# Altium schematic symbol library jlcpcb_2025_04_capacitors_extended_1812.schlib: 342 symbols (part 3 of 7)
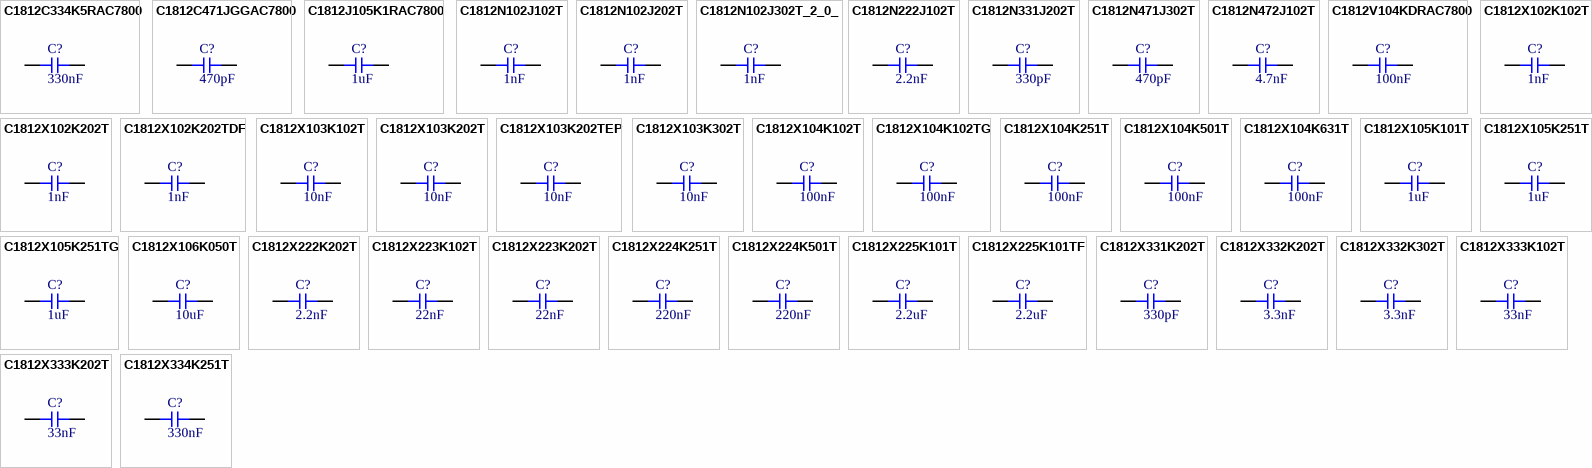
[diagram p10: symbols C1812C334K5RAC7800 to C1812X334K251T]

## C1812X104K102TG
designator C?  Capacitance: 100nF  (hidden comment: *)
Capacitor, Ceramic (MLCC), 100nF, ±10%, 1kV, X7R, ±10%, SMD 1812; Manufacturer: IHHEC(HOLY STONE ENTERPRISE CO., LTD); Manufacturer Part Number: C1812X104K102TG; Package Size: 1812; JLCPCB Basic Part: No; JLCPCB Part Number: C559299; Supplier 1: LCSC; Category: Capacitors - MLCC; Supplier Part Number 1: C559299; Tolerance: ±10%; Voltage Rating: 1kV; Temperature Coefficient: X7R; RoHS: Yes; ComponentLink1Description: Datasheet; ComponentLink1URL: https://wmsc.lcsc.com/wmsc/upload/file/pdf/v2/lcsc/2304140030_IHHEC-HOLY-STONE-ENTERPRISE-CO---LTD-C1812X104K102TG_C559299.pdf; ComponentLink2Description: JLCPCB Part URL; ComponentLink2URL: https://jlcpcb.com/partdetail/C559299; ComponentLink3Description: LCSC Part URL; ComponentLink3URL: https://lcsc.com/product-detail/Multilayer-Ceramic-Capacitors-MLCC---SMD-SMT_IHHECHOLY-STONE-ENTERPRISE-CO.%2C-LTD-IHHECHOLY-STONE-ENTERPRISE-CO.%2C-LTD-C1812X104K102TG_C559299.html
footprint CAP-1812 (1812 (4532M) Capacitor)
pins: 1, 2

## C1812X104K251T
designator C?  Capacitance: 100nF  (hidden comment: *)
Capacitor, Ceramic (MLCC), 100nF, ±10%, 250V, X7R, ±10%, SMD 1812; Manufacturer: IHHEC(HOLY STONE ENTERPRISE CO., LTD); Manufacturer Part Number: C1812X104K251T; Package Size: 1812; JLCPCB Basic Part: No; JLCPCB Part Number: C106148; Supplier 1: LCSC; Category: Capacitors - MLCC; Supplier Part Number 1: C106148; Tolerance: ±10%; Voltage Rating: 250V; Temperature Coefficient: X7R; RoHS: Yes; ComponentLink1Description: Datasheet; ComponentLink1URL: https://wmsc.lcsc.com/wmsc/upload/file/pdf/v2/lcsc/2304140030_IHHEC-HOLY-STONE-ENTERPRISE-CO---LTD-C1812X104K251T_C106148.pdf; ComponentLink2Description: JLCPCB Part URL; ComponentLink2URL: https://jlcpcb.com/partdetail/C106148; ComponentLink3Description: LCSC Part URL; ComponentLink3URL: https://lcsc.com/product-detail/Multilayer-Ceramic-Capacitors-MLCC---SMD-SMT_IHHECHOLY-STONE-ENTERPRISE-CO.%2C-LTD-IHHECHOLY-STONE-ENTERPRISE-CO.%2C-LTD-C1812X104K251T_C106148.html
footprint CAP-1812 (1812 (4532M) Capacitor)
pins: 1, 2

## C1812X104K501T
designator C?  Capacitance: 100nF  (hidden comment: *)
Capacitor, Ceramic (MLCC), 100nF, ±10%, 500V, X7R, ±10%, SMD 1812; Manufacturer: IHHEC(HOLY STONE ENTERPRISE CO., LTD); Manufacturer Part Number: C1812X104K501T; Package Size: 1812; JLCPCB Basic Part: No; JLCPCB Part Number: C106149; Supplier 1: LCSC; Category: Capacitors - MLCC; Supplier Part Number 1: C106149; Tolerance: ±10%; Voltage Rating: 500V; Temperature Coefficient: X7R; RoHS: Yes; ComponentLink1Description: Datasheet; ComponentLink1URL: https://wmsc.lcsc.com/wmsc/upload/file/pdf/v2/lcsc/2304140030_IHHEC-HOLY-STONE-ENTERPRISE-CO---LTD-C1812X104K501T_C106149.pdf; ComponentLink2Description: JLCPCB Part URL; ComponentLink2URL: https://jlcpcb.com/partdetail/C106149; ComponentLink3Description: LCSC Part URL; ComponentLink3URL: https://lcsc.com/product-detail/Multilayer-Ceramic-Capacitors-MLCC---SMD-SMT_IHHECHOLY-STONE-ENTERPRISE-CO.%2C-LTD-IHHECHOLY-STONE-ENTERPRISE-CO.%2C-LTD-C1812X104K501T_C106149.html
footprint CAP-1812 (1812 (4532M) Capacitor)
pins: 1, 2

## C1812X104K631T
designator C?  Capacitance: 100nF  (hidden comment: *)
Capacitor, Ceramic (MLCC), 100nF, ±10%, 630V, X7R, ±10%, SMD 1812; Manufacturer: IHHEC(HOLY STONE ENTERPRISE CO., LTD); Manufacturer Part Number: C1812X104K631T; Package Size: 1812; JLCPCB Basic Part: No; JLCPCB Part Number: C106150; Supplier 1: LCSC; Category: Capacitors - MLCC; Supplier Part Number 1: C106150; Tolerance: ±10%; Voltage Rating: 630V; Temperature Coefficient: X7R; RoHS: Yes; ComponentLink1Description: Datasheet; ComponentLink1URL: https://wmsc.lcsc.com/wmsc/upload/file/pdf/v2/lcsc/2304140030_IHHEC-HOLY-STONE-ENTERPRISE-CO---LTD-C1812X104K631T_C106150.pdf; ComponentLink2Description: JLCPCB Part URL; ComponentLink2URL: https://jlcpcb.com/partdetail/C106150; ComponentLink3Description: LCSC Part URL; ComponentLink3URL: https://lcsc.com/product-detail/Multilayer-Ceramic-Capacitors-MLCC---SMD-SMT_IHHECHOLY-STONE-ENTERPRISE-CO.%2C-LTD-IHHECHOLY-STONE-ENTERPRISE-CO.%2C-LTD-C1812X104K631T_C106150.html
footprint CAP-1812 (1812 (4532M) Capacitor)
pins: 1, 2

## C1812X105K101T
designator C?  Capacitance: 1uF  (hidden comment: *)
Capacitor, Ceramic (MLCC), 1uF, ±10%, 100V, X7R, ±10%, SMD 1812; Manufacturer: IHHEC(HOLY STONE ENTERPRISE CO., LTD); Manufacturer Part Number: C1812X105K101T; Package Size: 1812; JLCPCB Basic Part: No; JLCPCB Part Number: C106151; Supplier 1: LCSC; Category: Capacitors - MLCC; Supplier Part Number 1: C106151; Tolerance: ±10%; Voltage Rating: 100V; Temperature Coefficient: X7R; RoHS: Yes; ComponentLink1Description: Datasheet; ComponentLink1URL: https://wmsc.lcsc.com/wmsc/upload/file/pdf/v2/lcsc/2304140030_IHHEC-HOLY-STONE-ENTERPRISE-CO---LTD-C1812X105K101T_C106151.pdf; ComponentLink2Description: JLCPCB Part URL; ComponentLink2URL: https://jlcpcb.com/partdetail/C106151; ComponentLink3Description: LCSC Part URL; ComponentLink3URL: https://lcsc.com/product-detail/Multilayer-Ceramic-Capacitors-MLCC---SMD-SMT_IHHECHOLY-STONE-ENTERPRISE-CO.%2C-LTD-IHHECHOLY-STONE-ENTERPRISE-CO.%2C-LTD-C1812X105K101T_C106151.html
footprint CAP-1812 (1812 (4532M) Capacitor)
pins: 1, 2

## C1812X105K251T
designator C?  Capacitance: 1uF  (hidden comment: *)
Capacitor, Ceramic (MLCC), 1uF, ±10%, 250V, X7R, ±10%, SMD 1812; Manufacturer: IHHEC(HOLY STONE ENTERPRISE CO., LTD); Manufacturer Part Number: C1812X105K251T; Package Size: 1812; JLCPCB Basic Part: No; JLCPCB Part Number: C106152; Supplier 1: LCSC; Category: Capacitors - MLCC; Supplier Part Number 1: C106152; Tolerance: ±10%; Voltage Rating: 250V; Temperature Coefficient: X7R; RoHS: Yes; ComponentLink1Description: Datasheet; ComponentLink1URL: https://wmsc.lcsc.com/wmsc/upload/file/pdf/v2/lcsc/2304140030_IHHEC-HOLY-STONE-ENTERPRISE-CO---LTD-C1812X105K251T_C106152.pdf; ComponentLink2Description: JLCPCB Part URL; ComponentLink2URL: https://jlcpcb.com/partdetail/C106152; ComponentLink3Description: LCSC Part URL; ComponentLink3URL: https://lcsc.com/product-detail/Multilayer-Ceramic-Capacitors-MLCC---SMD-SMT_IHHECHOLY-STONE-ENTERPRISE-CO.%2C-LTD-IHHECHOLY-STONE-ENTERPRISE-CO.%2C-LTD-C1812X105K251T_C106152.html
footprint CAP-1812 (1812 (4532M) Capacitor)
pins: 1, 2

## C1812X105K251TG
designator C?  Capacitance: 1uF  (hidden comment: *)
Capacitor, Ceramic (MLCC), 1uF, ±10%, 250V, ±10%, SMD 1812; Manufacturer: IHHEC(HOLY STONE ENTERPRISE CO., LTD); Manufacturer Part Number: C1812X105K251TG; Package Size: 1812; JLCPCB Basic Part: No; JLCPCB Part Number: C4355183; Supplier 1: LCSC; Category: Capacitors - MLCC; Supplier Part Number 1: C4355183; Tolerance: ±10%; Voltage Rating: 250V; RoHS: Yes; ComponentLink1Description: Datasheet; ComponentLink1URL: https://wmsc.lcsc.com/wmsc/upload/file/pdf/v2/lcsc/2207151800_IHHEC-HOLY-STONE-ENTERPRISE-CO---LTD-C1812X105K251TG_C4355183.pdf; ComponentLink2Description: JLCPCB Part URL; ComponentLink2URL: https://jlcpcb.com/partdetail/C4355183; ComponentLink3Description: LCSC Part URL; ComponentLink3URL: https://lcsc.com/product-detail/Multilayer-Ceramic-Capacitors-MLCC---SMD-SMT_IHHECHOLY-STONE-ENTERPRISE-CO.%2C-LTD-IHHECHOLY-STONE-ENTERPRISE-CO.%2C-LTD-C1812X105K251TG_C4355183.html
footprint CAP-1812 (1812 (4532M) Capacitor)
pins: 1, 2

## C1812X106K050T
designator C?  Capacitance: 10uF  (hidden comment: *)
Capacitor, Ceramic (MLCC), 10uF, ±10%, 50V, X7R, ±10%, SMD 1812; Manufacturer: IHHEC(HOLY STONE ENTERPRISE CO., LTD); Manufacturer Part Number: C1812X106K050T; Package Size: 1812; JLCPCB Basic Part: No; JLCPCB Part Number: C111896; Supplier 1: LCSC; Category: Capacitors - MLCC; Supplier Part Number 1: C111896; Tolerance: ±10%; Voltage Rating: 50V; Temperature Coefficient: X7R; RoHS: Yes; ComponentLink1Description: Datasheet; ComponentLink1URL: https://wmsc.lcsc.com/wmsc/upload/file/pdf/v2/lcsc/1811111206_IHHEC-HOLY-STONE-ENTERPRISE-CO---LTD-C1812X106K050T_C111896.pdf; ComponentLink2Description: JLCPCB Part URL; ComponentLink2URL: https://jlcpcb.com/partdetail/C111896; ComponentLink3Description: LCSC Part URL; ComponentLink3URL: https://lcsc.com/product-detail/Multilayer-Ceramic-Capacitors-MLCC---SMD-SMT_IHHECHOLY-STONE-ENTERPRISE-CO.%2C-LTD-IHHECHOLY-STONE-ENTERPRISE-CO.%2C-LTD-C1812X106K050T_C111896.html
footprint CAP-1812 (1812 (4532M) Capacitor)
pins: 1, 2

## C1812X222K202T
designator C?  Capacitance: 2.2nF  (hidden comment: *)
Capacitor, Ceramic (MLCC), 2.2nF, ±10%, 2kV, X7R, ±10%, SMD 1812; Manufacturer: IHHEC(HOLY STONE ENTERPRISE CO., LTD); Manufacturer Part Number: C1812X222K202T; Package Size: 1812; JLCPCB Basic Part: No; JLCPCB Part Number: C106157; Supplier 1: LCSC; Category: Capacitors - MLCC; Supplier Part Number 1: C106157; Tolerance: ±10%; Voltage Rating: 2kV; Temperature Coefficient: X7R; RoHS: Yes; ComponentLink1Description: Datasheet; ComponentLink1URL: https://wmsc.lcsc.com/wmsc/upload/file/pdf/v2/lcsc/2304140030_IHHEC-HOLY-STONE-ENTERPRISE-CO---LTD-C1812X222K202T_C106157.pdf; ComponentLink2Description: JLCPCB Part URL; ComponentLink2URL: https://jlcpcb.com/partdetail/C106157; ComponentLink3Description: LCSC Part URL; ComponentLink3URL: https://lcsc.com/product-detail/Multilayer-Ceramic-Capacitors-MLCC---SMD-SMT_IHHECHOLY-STONE-ENTERPRISE-CO.%2C-LTD-IHHECHOLY-STONE-ENTERPRISE-CO.%2C-LTD-C1812X222K202T_C106157.html
footprint CAP-1812 (1812 (4532M) Capacitor)
pins: 1, 2

## C1812X223K102T
designator C?  Capacitance: 22nF  (hidden comment: *)
Capacitor, Ceramic (MLCC), 22nF, ±10%, 1kV, X7R, ±10%, SMD 1812; Manufacturer: IHHEC(HOLY STONE ENTERPRISE CO., LTD); Manufacturer Part Number: C1812X223K102T; Package Size: 1812; JLCPCB Basic Part: No; JLCPCB Part Number: C915848; Supplier 1: LCSC; Category: Capacitors - MLCC; Supplier Part Number 1: C915848; Tolerance: ±10%; Voltage Rating: 1kV; Temperature Coefficient: X7R; RoHS: Yes; ComponentLink1Description: Datasheet; ComponentLink1URL: https://wmsc.lcsc.com/wmsc/upload/file/pdf/v2/lcsc/2304140030_IHHEC-HOLY-STONE-ENTERPRISE-CO---LTD-C1812X223K102T_C915848.pdf; ComponentLink2Description: JLCPCB Part URL; ComponentLink2URL: https://jlcpcb.com/partdetail/C915848; ComponentLink3Description: LCSC Part URL; ComponentLink3URL: https://lcsc.com/product-detail/Multilayer-Ceramic-Capacitors-MLCC---SMD-SMT_IHHECHOLY-STONE-ENTERPRISE-CO.%2C-LTD-IHHECHOLY-STONE-ENTERPRISE-CO.%2C-LTD-C1812X223K102T_C915848.html
footprint CAP-1812 (1812 (4532M) Capacitor)
pins: 1, 2

## C1812X223K202T
designator C?  Capacitance: 22nF  (hidden comment: *)
Capacitor, Ceramic (MLCC), 22nF, ±10%, 2kV, X7R, ±10%, SMD 1812; Manufacturer: IHHEC(HOLY STONE ENTERPRISE CO., LTD); Manufacturer Part Number: C1812X223K202T; Package Size: 1812; JLCPCB Basic Part: No; JLCPCB Part Number: C2915761; Supplier 1: LCSC; Category: Capacitors - MLCC; Supplier Part Number 1: C2915761; Tolerance: ±10%; Voltage Rating: 2kV; Temperature Coefficient: X7R; RoHS: Yes; ComponentLink1Description: Datasheet; ComponentLink1URL: https://wmsc.lcsc.com/wmsc/upload/file/pdf/v2/lcsc/2111172030_IHHEC-HOLY-STONE-ENTERPRISE-CO---LTD-C1812X223K202T_C2915761.pdf; ComponentLink2Description: JLCPCB Part URL; ComponentLink2URL: https://jlcpcb.com/partdetail/C2915761; ComponentLink3Description: LCSC Part URL; ComponentLink3URL: https://lcsc.com/product-detail/Multilayer-Ceramic-Capacitors-MLCC---SMD-SMT_IHHECHOLY-STONE-ENTERPRISE-CO.%2C-LTD-IHHECHOLY-STONE-ENTERPRISE-CO.%2C-LTD-C1812X223K202T_C2915761.html
footprint CAP-1812 (1812 (4532M) Capacitor)
pins: 1, 2

## C1812X224K251T
designator C?  Capacitance: 220nF  (hidden comment: *)
Capacitor, Ceramic (MLCC), 220nF, ±10%, 250V, X7R, ±10%, SMD 1812; Manufacturer: IHHEC(HOLY STONE ENTERPRISE CO., LTD); Manufacturer Part Number: C1812X224K251T; Package Size: 1812; JLCPCB Basic Part: No; JLCPCB Part Number: C106159; Supplier 1: LCSC; Category: Capacitors - MLCC; Supplier Part Number 1: C106159; Tolerance: ±10%; Voltage Rating: 250V; Temperature Coefficient: X7R; RoHS: Yes; ComponentLink1Description: Datasheet; ComponentLink1URL: https://wmsc.lcsc.com/wmsc/upload/file/pdf/v2/lcsc/2304140030_IHHEC-HOLY-STONE-ENTERPRISE-CO---LTD-C1812X224K251T_C106159.pdf; ComponentLink2Description: JLCPCB Part URL; ComponentLink2URL: https://jlcpcb.com/partdetail/C106159; ComponentLink3Description: LCSC Part URL; ComponentLink3URL: https://lcsc.com/product-detail/Multilayer-Ceramic-Capacitors-MLCC---SMD-SMT_IHHECHOLY-STONE-ENTERPRISE-CO.%2C-LTD-IHHECHOLY-STONE-ENTERPRISE-CO.%2C-LTD-C1812X224K251T_C106159.html
footprint CAP-1812 (1812 (4532M) Capacitor)
pins: 1, 2

## C1812X224K501T
designator C?  Capacitance: 220nF  (hidden comment: *)
Capacitor, Ceramic (MLCC), 220nF, ±10%, 500V, X7R, ±10%, SMD 1812; Manufacturer: IHHEC(HOLY STONE ENTERPRISE CO., LTD); Manufacturer Part Number: C1812X224K501T; Package Size: 1812; JLCPCB Basic Part: No; JLCPCB Part Number: C106160; Supplier 1: LCSC; Category: Capacitors - MLCC; Supplier Part Number 1: C106160; Tolerance: ±10%; Voltage Rating: 500V; Temperature Coefficient: X7R; RoHS: Yes; ComponentLink1Description: Datasheet; ComponentLink1URL: https://wmsc.lcsc.com/wmsc/upload/file/pdf/v2/lcsc/2304140030_IHHEC-HOLY-STONE-ENTERPRISE-CO---LTD-C1812X224K501T_C106160.pdf; ComponentLink2Description: JLCPCB Part URL; ComponentLink2URL: https://jlcpcb.com/partdetail/C106160; ComponentLink3Description: LCSC Part URL; ComponentLink3URL: https://lcsc.com/product-detail/Multilayer-Ceramic-Capacitors-MLCC---SMD-SMT_IHHECHOLY-STONE-ENTERPRISE-CO.%2C-LTD-IHHECHOLY-STONE-ENTERPRISE-CO.%2C-LTD-C1812X224K501T_C106160.html
footprint CAP-1812 (1812 (4532M) Capacitor)
pins: 1, 2

## C1812X225K101T
designator C?  Capacitance: 2.2uF  (hidden comment: *)
Capacitor, Ceramic (MLCC), 2.2uF, ±10%, 100V, X7R, ±10%, SMD 1812; Manufacturer: IHHEC(HOLY STONE ENTERPRISE CO., LTD); Manufacturer Part Number: C1812X225K101T; Package Size: 1812; JLCPCB Basic Part: No; JLCPCB Part Number: C106162; Supplier 1: LCSC; Category: Capacitors - MLCC; Supplier Part Number 1: C106162; Tolerance: ±10%; Voltage Rating: 100V; Temperature Coefficient: X7R; RoHS: Yes; ComponentLink1Description: Datasheet; ComponentLink1URL: https://wmsc.lcsc.com/wmsc/upload/file/pdf/v2/lcsc/2304140030_IHHEC-HOLY-STONE-ENTERPRISE-CO---LTD-C1812X225K101T_C106162.pdf; ComponentLink2Description: JLCPCB Part URL; ComponentLink2URL: https://jlcpcb.com/partdetail/C106162; ComponentLink3Description: LCSC Part URL; ComponentLink3URL: https://lcsc.com/product-detail/Multilayer-Ceramic-Capacitors-MLCC---SMD-SMT_IHHECHOLY-STONE-ENTERPRISE-CO.%2C-LTD-IHHECHOLY-STONE-ENTERPRISE-CO.%2C-LTD-C1812X225K101T_C106162.html
footprint CAP-1812 (1812 (4532M) Capacitor)
pins: 1, 2

## C1812X225K101TF
designator C?  Capacitance: 2.2uF  (hidden comment: *)
Capacitor, Ceramic (MLCC), 2.2uF, ±10%, 100V, X7R, ±10%, SMD 1812; Manufacturer: IHHEC(HOLY STONE ENTERPRISE CO., LTD); Manufacturer Part Number: C1812X225K101TF; Package Size: 1812; JLCPCB Basic Part: No; JLCPCB Part Number: C915850; Supplier 1: LCSC; Category: Capacitors - MLCC; Supplier Part Number 1: C915850; Tolerance: ±10%; Voltage Rating: 100V; Temperature Coefficient: X7R; RoHS: Yes; ComponentLink1Description: Datasheet; ComponentLink2Description: JLCPCB Part URL; ComponentLink2URL: https://jlcpcb.com/partdetail/C915850; ComponentLink3Description: LCSC Part URL; ComponentLink3URL: https://lcsc.com/product-detail/Multilayer-Ceramic-Capacitors-MLCC---SMD-SMT_IHHECHOLY-STONE-ENTERPRISE-CO.%2C-LTD-IHHECHOLY-STONE-ENTERPRISE-CO.%2C-LTD-C1812X225K101TF_C915850.html
footprint CAP-1812 (1812 (4532M) Capacitor)
pins: 1, 2

## C1812X331K202T
designator C?  Capacitance: 330pF  (hidden comment: *)
Capacitor, Ceramic (MLCC), 330pF, ±10%, 2kV, X7R, ±10%, SMD 1812; Manufacturer: IHHEC(HOLY STONE ENTERPRISE CO., LTD); Manufacturer Part Number: C1812X331K202T; Package Size: 1812; JLCPCB Basic Part: No; JLCPCB Part Number: C2940744; Supplier 1: LCSC; Category: Capacitors - MLCC; Supplier Part Number 1: C2940744; Tolerance: ±10%; Voltage Rating: 2kV; Temperature Coefficient: X7R; RoHS: Yes; ComponentLink1Description: Datasheet; ComponentLink1URL: https://wmsc.lcsc.com/wmsc/upload/file/pdf/v2/lcsc/2205061616_IHHEC-HOLY-STONE-ENTERPRISE-CO---LTD-C1812X331K202T_C2940744.pdf; ComponentLink2Description: JLCPCB Part URL; ComponentLink2URL: https://jlcpcb.com/partdetail/C2940744; ComponentLink3Description: LCSC Part URL; ComponentLink3URL: https://lcsc.com/product-detail/Multilayer-Ceramic-Capacitors-MLCC---SMD-SMT_IHHECHOLY-STONE-ENTERPRISE-CO.%2C-LTD-IHHECHOLY-STONE-ENTERPRISE-CO.%2C-LTD-C1812X331K202T_C2940744.html
footprint CAP-1812 (1812 (4532M) Capacitor)
pins: 1, 2

## C1812X332K202T
designator C?  Capacitance: 3.3nF  (hidden comment: *)
Capacitor, Ceramic (MLCC), 3.3nF, ±10%, 2kV, X7R, ±10%, SMD 1812; Manufacturer: IHHEC(HOLY STONE ENTERPRISE CO., LTD); Manufacturer Part Number: C1812X332K202T; Package Size: 1812; JLCPCB Basic Part: No; JLCPCB Part Number: C106164; Supplier 1: LCSC; Category: Capacitors - MLCC; Supplier Part Number 1: C106164; Tolerance: ±10%; Voltage Rating: 2kV; Temperature Coefficient: X7R; RoHS: Yes; ComponentLink1Description: Datasheet; ComponentLink1URL: https://wmsc.lcsc.com/wmsc/upload/file/pdf/v2/lcsc/2304140030_IHHEC-HOLY-STONE-ENTERPRISE-CO---LTD-C1812X332K202T_C106164.pdf; ComponentLink2Description: JLCPCB Part URL; ComponentLink2URL: https://jlcpcb.com/partdetail/C106164; ComponentLink3Description: LCSC Part URL; ComponentLink3URL: https://lcsc.com/product-detail/Multilayer-Ceramic-Capacitors-MLCC---SMD-SMT_IHHECHOLY-STONE-ENTERPRISE-CO.%2C-LTD-IHHECHOLY-STONE-ENTERPRISE-CO.%2C-LTD-C1812X332K202T_C106164.html
footprint CAP-1812 (1812 (4532M) Capacitor)
pins: 1, 2

## C1812X332K302T
designator C?  Capacitance: 3.3nF  (hidden comment: *)
Capacitor, Ceramic (MLCC), 3.3nF, ±10%, 3kV, X7R, ±10%, SMD 1812; Manufacturer: IHHEC(HOLY STONE ENTERPRISE CO., LTD); Manufacturer Part Number: C1812X332K302T; Package Size: 1812; JLCPCB Basic Part: No; JLCPCB Part Number: C106165; Supplier 1: LCSC; Category: Capacitors - MLCC; Supplier Part Number 1: C106165; Tolerance: ±10%; Voltage Rating: 3kV; Temperature Coefficient: X7R; RoHS: Yes; ComponentLink1Description: Datasheet; ComponentLink1URL: https://wmsc.lcsc.com/wmsc/upload/file/pdf/v2/lcsc/2304140030_IHHEC-HOLY-STONE-ENTERPRISE-CO---LTD-C1812X332K302T_C106165.pdf; ComponentLink2Description: JLCPCB Part URL; ComponentLink2URL: https://jlcpcb.com/partdetail/C106165; ComponentLink3Description: LCSC Part URL; ComponentLink3URL: https://lcsc.com/product-detail/Multilayer-Ceramic-Capacitors-MLCC---SMD-SMT_IHHECHOLY-STONE-ENTERPRISE-CO.%2C-LTD-IHHECHOLY-STONE-ENTERPRISE-CO.%2C-LTD-C1812X332K302T_C106165.html
footprint CAP-1812 (1812 (4532M) Capacitor)
pins: 1, 2

## C1812X333K102T
designator C?  Capacitance: 33nF  (hidden comment: *)
Capacitor, Ceramic (MLCC), 33nF, ±10%, 1kV, X7R, ±10%, SMD 1812; Manufacturer: IHHEC(HOLY STONE ENTERPRISE CO., LTD); Manufacturer Part Number: C1812X333K102T; Package Size: 1812; JLCPCB Basic Part: No; JLCPCB Part Number: C340308; Supplier 1: LCSC; Category: Capacitors - MLCC; Supplier Part Number 1: C340308; Tolerance: ±10%; Voltage Rating: 1kV; Temperature Coefficient: X7R; RoHS: Yes; ComponentLink1Description: Datasheet; ComponentLink1URL: https://wmsc.lcsc.com/wmsc/upload/file/pdf/v2/lcsc/2304140030_IHHEC-HOLY-STONE-ENTERPRISE-CO---LTD-C1812X333K102T_C340308.pdf; ComponentLink2Description: JLCPCB Part URL; ComponentLink2URL: https://jlcpcb.com/partdetail/C340308; ComponentLink3Description: LCSC Part URL; ComponentLink3URL: https://lcsc.com/product-detail/Multilayer-Ceramic-Capacitors-MLCC---SMD-SMT_IHHECHOLY-STONE-ENTERPRISE-CO.%2C-LTD-IHHECHOLY-STONE-ENTERPRISE-CO.%2C-LTD-C1812X333K102T_C340308.html
footprint CAP-1812 (1812 (4532M) Capacitor)
pins: 1, 2

## C1812X333K202T
designator C?  Capacitance: 33nF  (hidden comment: *)
Capacitor, Ceramic (MLCC), 33nF, ±10%, 2kV, X7R, ±10%, SMD 1812; Manufacturer: IHHEC(HOLY STONE ENTERPRISE CO., LTD); Manufacturer Part Number: C1812X333K202T; Package Size: 1812; JLCPCB Basic Part: No; JLCPCB Part Number: C2940751; Supplier 1: LCSC; Category: Capacitors - MLCC; Supplier Part Number 1: C2940751; Tolerance: ±10%; Voltage Rating: 2kV; Temperature Coefficient: X7R; RoHS: Yes; ComponentLink1Description: Datasheet; ComponentLink1URL: https://wmsc.lcsc.com/wmsc/upload/file/pdf/v2/lcsc/2203101903_IHHEC-HOLY-STONE-ENTERPRISE-CO---LTD-C1812X333K202T_C2940751.pdf; ComponentLink2Description: JLCPCB Part URL; ComponentLink2URL: https://jlcpcb.com/partdetail/C2940751; ComponentLink3Description: LCSC Part URL; ComponentLink3URL: https://lcsc.com/product-detail/Multilayer-Ceramic-Capacitors-MLCC---SMD-SMT_IHHECHOLY-STONE-ENTERPRISE-CO.%2C-LTD-IHHECHOLY-STONE-ENTERPRISE-CO.%2C-LTD-C1812X333K202T_C2940751.html
footprint CAP-1812 (1812 (4532M) Capacitor)
pins: 1, 2

## C1812X334K251T
designator C?  Capacitance: 330nF  (hidden comment: *)
Capacitor, Ceramic (MLCC), 330nF, ±10%, 250V, X7R, ±10%, SMD 1812; Manufacturer: IHHEC(HOLY STONE ENTERPRISE CO., LTD); Manufacturer Part Number: C1812X334K251T; Package Size: 1812; JLCPCB Basic Part: No; JLCPCB Part Number: C106167; Supplier 1: LCSC; Category: Capacitors - MLCC; Supplier Part Number 1: C106167; Tolerance: ±10%; Voltage Rating: 250V; Temperature Coefficient: X7R; RoHS: Yes; ComponentLink1Description: Datasheet; ComponentLink1URL: https://wmsc.lcsc.com/wmsc/upload/file/pdf/v2/lcsc/2304140030_IHHEC-HOLY-STONE-ENTERPRISE-CO---LTD-C1812X334K251T_C106167.pdf; ComponentLink2Description: JLCPCB Part URL; ComponentLink2URL: https://jlcpcb.com/partdetail/C106167; ComponentLink3Description: LCSC Part URL; ComponentLink3URL: https://lcsc.com/product-detail/Multilayer-Ceramic-Capacitors-MLCC---SMD-SMT_IHHECHOLY-STONE-ENTERPRISE-CO.%2C-LTD-IHHECHOLY-STONE-ENTERPRISE-CO.%2C-LTD-C1812X334K251T_C106167.html
footprint CAP-1812 (1812 (4532M) Capacitor)
pins: 1, 2

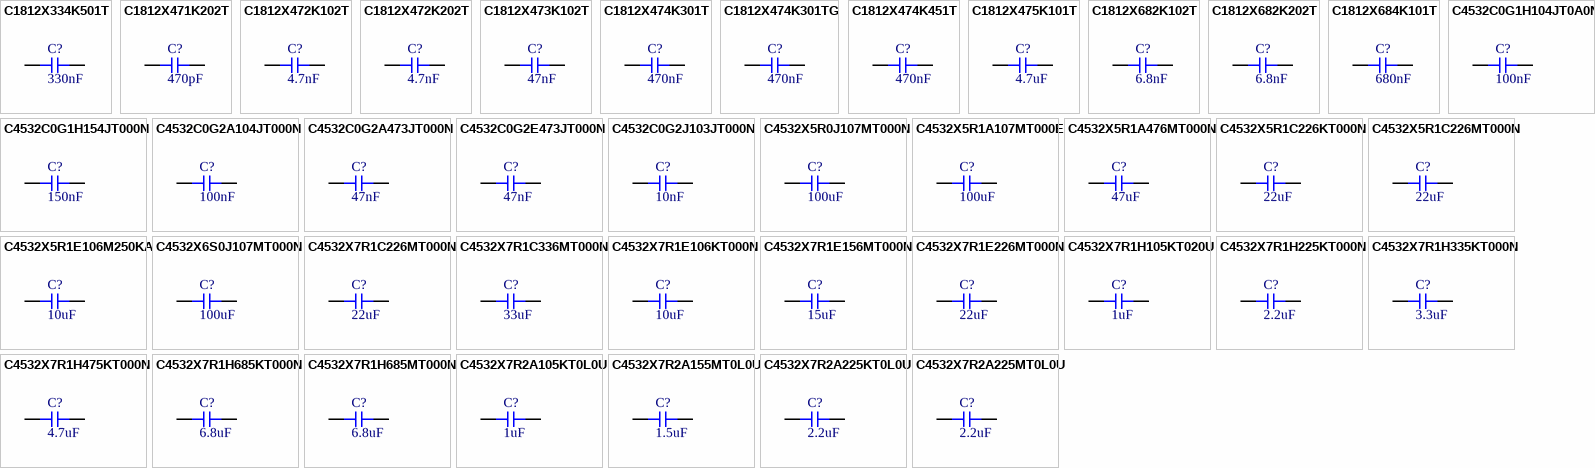
[diagram p3: symbols C1812X334K501T to C4532X7R2A225MT0L0U]

## C1812X334K501T
designator C?  Capacitance: 330nF  (hidden comment: *)
Capacitor, Ceramic (MLCC), 330nF, ±10%, 500V, X7R, ±10%, SMD 1812; Manufacturer: IHHEC(HOLY STONE ENTERPRISE CO., LTD); Manufacturer Part Number: C1812X334K501T; Package Size: 1812; JLCPCB Basic Part: No; JLCPCB Part Number: C2998569; Supplier 1: LCSC; Category: Capacitors - MLCC; Supplier Part Number 1: C2998569; Tolerance: ±10%; Voltage Rating: 500V; Temperature Coefficient: X7R; RoHS: Yes; ComponentLink1Description: Datasheet; ComponentLink1URL: https://wmsc.lcsc.com/wmsc/upload/file/pdf/v2/lcsc/2205051716_IHHEC-HOLY-STONE-ENTERPRISE-CO---LTD-C1812X334K501T_C2998569.pdf; ComponentLink2Description: JLCPCB Part URL; ComponentLink2URL: https://jlcpcb.com/partdetail/C2998569; ComponentLink3Description: LCSC Part URL; ComponentLink3URL: https://lcsc.com/product-detail/Multilayer-Ceramic-Capacitors-MLCC---SMD-SMT_IHHECHOLY-STONE-ENTERPRISE-CO.%2C-LTD-IHHECHOLY-STONE-ENTERPRISE-CO.%2C-LTD-C1812X334K501T_C2998569.html
footprint CAP-1812 (1812 (4532M) Capacitor)
pins: 1, 2

## C1812X471K202T
designator C?  Capacitance: 470pF  (hidden comment: *)
Capacitor, Ceramic (MLCC), 470pF, ±10%, 2kV, X7R, ±10%, SMD 1812; Manufacturer: IHHEC(HOLY STONE ENTERPRISE CO., LTD); Manufacturer Part Number: C1812X471K202T; Package Size: 1812; JLCPCB Basic Part: No; JLCPCB Part Number: C106170; Supplier 1: LCSC; Category: Capacitors - MLCC; Supplier Part Number 1: C106170; Tolerance: ±10%; Voltage Rating: 2kV; Temperature Coefficient: X7R; RoHS: Yes; ComponentLink1Description: Datasheet; ComponentLink1URL: https://wmsc.lcsc.com/wmsc/upload/file/pdf/v2/lcsc/2304140030_IHHEC-HOLY-STONE-ENTERPRISE-CO---LTD-C1812X471K202T_C106170.pdf; ComponentLink2Description: JLCPCB Part URL; ComponentLink2URL: https://jlcpcb.com/partdetail/C106170; ComponentLink3Description: LCSC Part URL; ComponentLink3URL: https://lcsc.com/product-detail/Multilayer-Ceramic-Capacitors-MLCC---SMD-SMT_IHHECHOLY-STONE-ENTERPRISE-CO.%2C-LTD-IHHECHOLY-STONE-ENTERPRISE-CO.%2C-LTD-C1812X471K202T_C106170.html
footprint CAP-1812 (1812 (4532M) Capacitor)
pins: 1, 2

## C1812X472K102T
designator C?  Capacitance: 4.7nF  (hidden comment: *)
Capacitor, Ceramic (MLCC), 4.7nF, ±10%, 1kV, X7R, ±10%, SMD 1812; Manufacturer: IHHEC(HOLY STONE ENTERPRISE CO., LTD); Manufacturer Part Number: C1812X472K102T; Package Size: 1812; JLCPCB Basic Part: No; JLCPCB Part Number: C106171; Supplier 1: LCSC; Category: Capacitors - MLCC; Supplier Part Number 1: C106171; Tolerance: ±10%; Voltage Rating: 1kV; Temperature Coefficient: X7R; RoHS: Yes; ComponentLink1Description: Datasheet; ComponentLink1URL: https://wmsc.lcsc.com/wmsc/upload/file/pdf/v2/lcsc/2304140030_IHHEC-HOLY-STONE-ENTERPRISE-CO---LTD-C1812X472K102T_C106171.pdf; ComponentLink2Description: JLCPCB Part URL; ComponentLink2URL: https://jlcpcb.com/partdetail/C106171; ComponentLink3Description: LCSC Part URL; ComponentLink3URL: https://lcsc.com/product-detail/Multilayer-Ceramic-Capacitors-MLCC---SMD-SMT_IHHECHOLY-STONE-ENTERPRISE-CO.%2C-LTD-IHHECHOLY-STONE-ENTERPRISE-CO.%2C-LTD-C1812X472K102T_C106171.html
footprint CAP-1812 (1812 (4532M) Capacitor)
pins: 1, 2

## C1812X472K202T
designator C?  Capacitance: 4.7nF  (hidden comment: *)
Capacitor, Ceramic (MLCC), 4.7nF, ±10%, 2kV, X7R, ±10%, SMD 1812; Manufacturer: IHHEC(HOLY STONE ENTERPRISE CO., LTD); Manufacturer Part Number: C1812X472K202T; Package Size: 1812; JLCPCB Basic Part: No; JLCPCB Part Number: C106172; Supplier 1: LCSC; Category: Capacitors - MLCC; Supplier Part Number 1: C106172; Tolerance: ±10%; Voltage Rating: 2kV; Temperature Coefficient: X7R; RoHS: Yes; ComponentLink1Description: Datasheet; ComponentLink1URL: https://wmsc.lcsc.com/wmsc/upload/file/pdf/v2/lcsc/2304140030_IHHEC-HOLY-STONE-ENTERPRISE-CO---LTD-C1812X472K202T_C106172.pdf; ComponentLink2Description: JLCPCB Part URL; ComponentLink2URL: https://jlcpcb.com/partdetail/C106172; ComponentLink3Description: LCSC Part URL; ComponentLink3URL: https://lcsc.com/product-detail/Multilayer-Ceramic-Capacitors-MLCC---SMD-SMT_IHHECHOLY-STONE-ENTERPRISE-CO.%2C-LTD-IHHECHOLY-STONE-ENTERPRISE-CO.%2C-LTD-C1812X472K202T_C106172.html
footprint CAP-1812 (1812 (4532M) Capacitor)
pins: 1, 2

## C1812X473K102T
designator C?  Capacitance: 47nF  (hidden comment: *)
Capacitor, Ceramic (MLCC), 47nF, ±10%, 1kV, X7R, ±10%, SMD 1812; Manufacturer: IHHEC(HOLY STONE ENTERPRISE CO., LTD); Manufacturer Part Number: C1812X473K102T; Package Size: 1812; JLCPCB Basic Part: No; JLCPCB Part Number: C106173; Supplier 1: LCSC; Category: Capacitors - MLCC; Supplier Part Number 1: C106173; Tolerance: ±10%; Voltage Rating: 1kV; Temperature Coefficient: X7R; RoHS: Yes; ComponentLink1Description: Datasheet; ComponentLink1URL: https://wmsc.lcsc.com/wmsc/upload/file/pdf/v2/lcsc/2304140030_IHHEC-HOLY-STONE-ENTERPRISE-CO---LTD-C1812X473K102T_C106173.pdf; ComponentLink2Description: JLCPCB Part URL; ComponentLink2URL: https://jlcpcb.com/partdetail/C106173; ComponentLink3Description: LCSC Part URL; ComponentLink3URL: https://lcsc.com/product-detail/Multilayer-Ceramic-Capacitors-MLCC---SMD-SMT_IHHECHOLY-STONE-ENTERPRISE-CO.%2C-LTD-IHHECHOLY-STONE-ENTERPRISE-CO.%2C-LTD-C1812X473K102T_C106173.html
footprint CAP-1812 (1812 (4532M) Capacitor)
pins: 1, 2

## C1812X474K301T
designator C?  Capacitance: 470nF  (hidden comment: *)
Capacitor, Ceramic (MLCC), 470nF, ±10%, 300V, X7R, ±10%, SMD 1812; Manufacturer: IHHEC(HOLY STONE ENTERPRISE CO., LTD); Manufacturer Part Number: C1812X474K301T; Package Size: 1812; JLCPCB Basic Part: No; JLCPCB Part Number: C961538; Supplier 1: LCSC; Category: Capacitors - MLCC; Supplier Part Number 1: C961538; Tolerance: ±10%; Voltage Rating: 300V; Temperature Coefficient: X7R; RoHS: Yes; ComponentLink1Description: Datasheet; ComponentLink1URL: https://wmsc.lcsc.com/wmsc/upload/file/pdf/v2/lcsc/2304140030_IHHEC-HOLY-STONE-ENTERPRISE-CO---LTD-C1812X474K301T_C961538.pdf; ComponentLink2Description: JLCPCB Part URL; ComponentLink2URL: https://jlcpcb.com/partdetail/C961538; ComponentLink3Description: LCSC Part URL; ComponentLink3URL: https://lcsc.com/product-detail/Multilayer-Ceramic-Capacitors-MLCC---SMD-SMT_IHHECHOLY-STONE-ENTERPRISE-CO.%2C-LTD-IHHECHOLY-STONE-ENTERPRISE-CO.%2C-LTD-C1812X474K301T_C961538.html
footprint CAP-1812 (1812 (4532M) Capacitor)
pins: 1, 2

## C1812X474K301TG
designator C?  Capacitance: 470nF  (hidden comment: *)
Capacitor, Ceramic (MLCC), 470nF, ±10%, 300V, X7R, ±10%, SMD 1812; Manufacturer: IHHEC(HOLY STONE ENTERPRISE CO., LTD); Manufacturer Part Number: C1812X474K301TG; Package Size: 1812; JLCPCB Basic Part: No; JLCPCB Part Number: C961539; Supplier 1: LCSC; Category: Capacitors - MLCC; Supplier Part Number 1: C961539; Tolerance: ±10%; Voltage Rating: 300V; Temperature Coefficient: X7R; RoHS: Yes; ComponentLink1Description: Datasheet; ComponentLink1URL: https://wmsc.lcsc.com/wmsc/upload/file/pdf/v2/lcsc/2304140030_IHHEC-HOLY-STONE-ENTERPRISE-CO---LTD-C1812X474K301TG_C961539.pdf; ComponentLink2Description: JLCPCB Part URL; ComponentLink2URL: https://jlcpcb.com/partdetail/C961539; ComponentLink3Description: LCSC Part URL; ComponentLink3URL: https://lcsc.com/product-detail/Multilayer-Ceramic-Capacitors-MLCC---SMD-SMT_IHHECHOLY-STONE-ENTERPRISE-CO.%2C-LTD-IHHECHOLY-STONE-ENTERPRISE-CO.%2C-LTD-C1812X474K301TG_C961539.html
footprint CAP-1812 (1812 (4532M) Capacitor)
pins: 1, 2

## C1812X474K451T
designator C?  Capacitance: 470nF  (hidden comment: *)
Capacitor, Ceramic (MLCC), 470nF, ±10%, 450V, X7R, ±10%, SMD 1812; Manufacturer: IHHEC(HOLY STONE ENTERPRISE CO., LTD); Manufacturer Part Number: C1812X474K451T; Package Size: 1812; JLCPCB Basic Part: No; JLCPCB Part Number: C106175; Supplier 1: LCSC; Category: Capacitors - MLCC; Supplier Part Number 1: C106175; Tolerance: ±10%; Voltage Rating: 450V; Temperature Coefficient: X7R; RoHS: Yes; ComponentLink1Description: Datasheet; ComponentLink1URL: https://wmsc.lcsc.com/wmsc/upload/file/pdf/v2/lcsc/2304140030_IHHEC-HOLY-STONE-ENTERPRISE-CO---LTD-C1812X474K451T_C106175.pdf; ComponentLink2Description: JLCPCB Part URL; ComponentLink2URL: https://jlcpcb.com/partdetail/C106175; ComponentLink3Description: LCSC Part URL; ComponentLink3URL: https://lcsc.com/product-detail/Multilayer-Ceramic-Capacitors-MLCC---SMD-SMT_IHHECHOLY-STONE-ENTERPRISE-CO.%2C-LTD-IHHECHOLY-STONE-ENTERPRISE-CO.%2C-LTD-C1812X474K451T_C106175.html
footprint CAP-1812 (1812 (4532M) Capacitor)
pins: 1, 2

## C1812X475K101T
designator C?  Capacitance: 4.7uF  (hidden comment: *)
Capacitor, Ceramic (MLCC), 4.7uF, ±10%, 100V, X7R, ±10%, SMD 1812; Manufacturer: IHHEC(HOLY STONE ENTERPRISE CO., LTD); Manufacturer Part Number: C1812X475K101T; Package Size: 1812; JLCPCB Basic Part: No; JLCPCB Part Number: C915849; Supplier 1: LCSC; Category: Capacitors - MLCC; Supplier Part Number 1: C915849; Tolerance: ±10%; Voltage Rating: 100V; Temperature Coefficient: X7R; RoHS: Yes; ComponentLink1Description: Datasheet; ComponentLink1URL: https://wmsc.lcsc.com/wmsc/upload/file/pdf/v2/lcsc/2304140030_IHHEC-HOLY-STONE-ENTERPRISE-CO---LTD-C1812X475K101T_C915849.pdf; ComponentLink2Description: JLCPCB Part URL; ComponentLink2URL: https://jlcpcb.com/partdetail/C915849; ComponentLink3Description: LCSC Part URL; ComponentLink3URL: https://lcsc.com/product-detail/Multilayer-Ceramic-Capacitors-MLCC---SMD-SMT_IHHECHOLY-STONE-ENTERPRISE-CO.%2C-LTD-IHHECHOLY-STONE-ENTERPRISE-CO.%2C-LTD-C1812X475K101T_C915849.html
footprint CAP-1812 (1812 (4532M) Capacitor)
pins: 1, 2

## C1812X682K102T
designator C?  Capacitance: 6.8nF  (hidden comment: *)
Capacitor, Ceramic (MLCC), 6.8nF, ±10%, 1kV, X7R, ±10%, SMD 1812; Manufacturer: IHHEC(HOLY STONE ENTERPRISE CO., LTD); Manufacturer Part Number: C1812X682K102T; Package Size: 1812; JLCPCB Basic Part: No; JLCPCB Part Number: C106178; Supplier 1: LCSC; Category: Capacitors - MLCC; Supplier Part Number 1: C106178; Tolerance: ±10%; Voltage Rating: 1kV; Temperature Coefficient: X7R; RoHS: Yes; ComponentLink1Description: Datasheet; ComponentLink1URL: https://wmsc.lcsc.com/wmsc/upload/file/pdf/v2/lcsc/2304140030_IHHEC-HOLY-STONE-ENTERPRISE-CO---LTD-C1812X682K102T_C106178.pdf; ComponentLink2Description: JLCPCB Part URL; ComponentLink2URL: https://jlcpcb.com/partdetail/C106178; ComponentLink3Description: LCSC Part URL; ComponentLink3URL: https://lcsc.com/product-detail/Multilayer-Ceramic-Capacitors-MLCC---SMD-SMT_IHHECHOLY-STONE-ENTERPRISE-CO.%2C-LTD-IHHECHOLY-STONE-ENTERPRISE-CO.%2C-LTD-C1812X682K102T_C106178.html
footprint CAP-1812 (1812 (4532M) Capacitor)
pins: 1, 2

## C1812X682K202T
designator C?  Capacitance: 6.8nF  (hidden comment: *)
Capacitor, Ceramic (MLCC), 6.8nF, ±10%, 2kV, X7R, ±10%, SMD 1812; Manufacturer: IHHEC(HOLY STONE ENTERPRISE CO., LTD); Manufacturer Part Number: C1812X682K202T; Package Size: 1812; JLCPCB Basic Part: No; JLCPCB Part Number: C106179; Supplier 1: LCSC; Category: Capacitors - MLCC; Supplier Part Number 1: C106179; Tolerance: ±10%; Voltage Rating: 2kV; Temperature Coefficient: X7R; RoHS: Yes; ComponentLink1Description: Datasheet; ComponentLink1URL: https://wmsc.lcsc.com/wmsc/upload/file/pdf/v2/lcsc/2304140030_IHHEC-HOLY-STONE-ENTERPRISE-CO---LTD-C1812X682K202T_C106179.pdf; ComponentLink2Description: JLCPCB Part URL; ComponentLink2URL: https://jlcpcb.com/partdetail/C106179; ComponentLink3Description: LCSC Part URL; ComponentLink3URL: https://lcsc.com/product-detail/Multilayer-Ceramic-Capacitors-MLCC---SMD-SMT_IHHECHOLY-STONE-ENTERPRISE-CO.%2C-LTD-IHHECHOLY-STONE-ENTERPRISE-CO.%2C-LTD-C1812X682K202T_C106179.html
footprint CAP-1812 (1812 (4532M) Capacitor)
pins: 1, 2

## C1812X684K101T
designator C?  Capacitance: 680nF  (hidden comment: *)
Capacitor, Ceramic (MLCC), 680nF, ±10%, 100V, X7R, ±10%, SMD 1812; Manufacturer: IHHEC(HOLY STONE ENTERPRISE CO., LTD); Manufacturer Part Number: C1812X684K101T; Package Size: 1812; JLCPCB Basic Part: No; JLCPCB Part Number: C340315; Supplier 1: LCSC; Category: Capacitors - MLCC; Supplier Part Number 1: C340315; Tolerance: ±10%; Voltage Rating: 100V; Temperature Coefficient: X7R; RoHS: Yes; ComponentLink1Description: Datasheet; ComponentLink1URL: https://wmsc.lcsc.com/wmsc/upload/file/pdf/v2/lcsc/2304140030_IHHEC-HOLY-STONE-ENTERPRISE-CO---LTD-C1812X684K101T_C340315.pdf; ComponentLink2Description: JLCPCB Part URL; ComponentLink2URL: https://jlcpcb.com/partdetail/C340315; ComponentLink3Description: LCSC Part URL; ComponentLink3URL: https://lcsc.com/product-detail/Multilayer-Ceramic-Capacitors-MLCC---SMD-SMT_IHHECHOLY-STONE-ENTERPRISE-CO.%2C-LTD-IHHECHOLY-STONE-ENTERPRISE-CO.%2C-LTD-C1812X684K101T_C340315.html
footprint CAP-1812 (1812 (4532M) Capacitor)
pins: 1, 2

## C4532C0G1H104JT0A0N
designator C?  Capacitance: 100nF  (hidden comment: *)
Capacitor, Ceramic (MLCC), 100nF, ±5%, 50V, C0G, ±5%, SMD 1812; Manufacturer: TDK; Manufacturer Part Number: C4532C0G1H104JT0A0N; Package Size: 1812; JLCPCB Basic Part: No; JLCPCB Part Number: C342613; Supplier 1: LCSC; Category: Capacitors - MLCC; Supplier Part Number 1: C342613; Tolerance: ±5%; Voltage Rating: 50V; Temperature Coefficient: C0G; RoHS: Yes; ComponentLink1Description: Datasheet; ComponentLink1URL: https://wmsc.lcsc.com/wmsc/upload/file/pdf/v2/lcsc/2304140030_TDK-C4532C0G1H104JT0A0N_C342613.pdf; ComponentLink2Description: JLCPCB Part URL; ComponentLink2URL: https://jlcpcb.com/partdetail/C342613; ComponentLink3Description: LCSC Part URL; ComponentLink3URL: https://lcsc.com/product-detail/Multilayer-Ceramic-Capacitors-MLCC---SMD-SMT_TDK-TDK-C4532C0G1H104JT0A0N_C342613.html
footprint CAP-1812 (1812 (4532M) Capacitor)
pins: 1, 2

## C4532C0G1H154JT000N
designator C?  Capacitance: 150nF  (hidden comment: *)
Capacitor, Ceramic (MLCC), 150nF, ±5%, 50V, C0G, ±5%, SMD 1812; Manufacturer: TDK; Manufacturer Part Number: C4532C0G1H154JT000N; Package Size: 1812; JLCPCB Basic Part: No; JLCPCB Part Number: C342306; Supplier 1: LCSC; Category: Capacitors - MLCC; Supplier Part Number 1: C342306; Tolerance: ±5%; Voltage Rating: 50V; Temperature Coefficient: C0G; RoHS: Yes; ComponentLink1Description: Datasheet; ComponentLink1URL: https://wmsc.lcsc.com/wmsc/upload/file/pdf/v2/lcsc/2304140030_TDK-C4532C0G1H154JT000N_C342306.pdf; ComponentLink2Description: JLCPCB Part URL; ComponentLink2URL: https://jlcpcb.com/partdetail/C342306; ComponentLink3Description: LCSC Part URL; ComponentLink3URL: https://lcsc.com/product-detail/Multilayer-Ceramic-Capacitors-MLCC---SMD-SMT_TDK-TDK-C4532C0G1H154JT000N_C342306.html
footprint CAP-1812 (1812 (4532M) Capacitor)
pins: 1, 2

## C4532C0G2A104JT000N
designator C?  Capacitance: 100nF  (hidden comment: *)
Capacitor, Ceramic (MLCC), 100nF, ±5%, 100V, C0G, ±5%, SMD 1812; Manufacturer: TDK; Manufacturer Part Number: C4532C0G2A104JT000N; Package Size: 1812; JLCPCB Basic Part: No; JLCPCB Part Number: C342611; Supplier 1: LCSC; Category: Capacitors - MLCC; Supplier Part Number 1: C342611; Tolerance: ±5%; Voltage Rating: 100V; Temperature Coefficient: C0G; RoHS: Yes; ComponentLink1Description: Datasheet; ComponentLink1URL: https://wmsc.lcsc.com/wmsc/upload/file/pdf/v2/lcsc/2304140030_TDK-C4532C0G2A104JT000N_C342611.pdf; ComponentLink2Description: JLCPCB Part URL; ComponentLink2URL: https://jlcpcb.com/partdetail/C342611; ComponentLink3Description: LCSC Part URL; ComponentLink3URL: https://lcsc.com/product-detail/Multilayer-Ceramic-Capacitors-MLCC---SMD-SMT_TDK-TDK-C4532C0G2A104JT000N_C342611.html
footprint CAP-1812 (1812 (4532M) Capacitor)
pins: 1, 2

## C4532C0G2A473JT000N
designator C?  Capacitance: 47nF  (hidden comment: *)
Capacitor, Ceramic (MLCC), 47nF, ±5%, 100V, C0G, ±5%, SMD 1812; Manufacturer: TDK; Manufacturer Part Number: C4532C0G2A473JT000N; Package Size: 1812; JLCPCB Basic Part: No; JLCPCB Part Number: C342641; Supplier 1: LCSC; Category: Capacitors - MLCC; Supplier Part Number 1: C342641; Tolerance: ±5%; Voltage Rating: 100V; Temperature Coefficient: C0G; RoHS: Yes; ComponentLink1Description: Datasheet; ComponentLink1URL: https://wmsc.lcsc.com/wmsc/upload/file/pdf/v2/lcsc/2304140030_TDK-C4532C0G2A473JT000N_C342641.pdf; ComponentLink2Description: JLCPCB Part URL; ComponentLink2URL: https://jlcpcb.com/partdetail/C342641; ComponentLink3Description: LCSC Part URL; ComponentLink3URL: https://lcsc.com/product-detail/Multilayer-Ceramic-Capacitors-MLCC---SMD-SMT_TDK-TDK-C4532C0G2A473JT000N_C342641.html
footprint CAP-1812 (1812 (4532M) Capacitor)
pins: 1, 2

## C4532C0G2E473JT000N
designator C?  Capacitance: 47nF  (hidden comment: *)
Capacitor, Ceramic (MLCC), 47nF, ±5%, 250V, C0G, ±5%, SMD 1812; Manufacturer: TDK; Manufacturer Part Number: C4532C0G2E473JT000N; Package Size: 1812; JLCPCB Basic Part: No; JLCPCB Part Number: C342612; Supplier 1: LCSC; Category: Capacitors - MLCC; Supplier Part Number 1: C342612; Tolerance: ±5%; Voltage Rating: 250V; Temperature Coefficient: C0G; RoHS: Yes; ComponentLink1Description: Datasheet; ComponentLink1URL: https://wmsc.lcsc.com/wmsc/upload/file/pdf/v2/lcsc/2304140030_TDK-C4532C0G2E473JT000N_C342612.pdf; ComponentLink2Description: JLCPCB Part URL; ComponentLink2URL: https://jlcpcb.com/partdetail/C342612; ComponentLink3Description: LCSC Part URL; ComponentLink3URL: https://lcsc.com/product-detail/Multilayer-Ceramic-Capacitors-MLCC---SMD-SMT_TDK-TDK-C4532C0G2E473JT000N_C342612.html
footprint CAP-1812 (1812 (4532M) Capacitor)
pins: 1, 2

## C4532C0G2J103JT000N
designator C?  Capacitance: 10nF  (hidden comment: *)
Capacitor, Ceramic (MLCC), 10nF, ±5%, 630V, C0G, ±5%, SMD 1812; Manufacturer: TDK; Manufacturer Part Number: C4532C0G2J103JT000N; Package Size: 1812; JLCPCB Basic Part: No; JLCPCB Part Number: C342642; Supplier 1: LCSC; Category: Capacitors - MLCC; Supplier Part Number 1: C342642; Tolerance: ±5%; Voltage Rating: 630V; Temperature Coefficient: C0G; RoHS: Yes; ComponentLink1Description: Datasheet; ComponentLink1URL: https://wmsc.lcsc.com/wmsc/upload/file/pdf/v2/lcsc/2304140030_TDK-C4532C0G2J103JT000N_C342642.pdf; ComponentLink2Description: JLCPCB Part URL; ComponentLink2URL: https://jlcpcb.com/partdetail/C342642; ComponentLink3Description: LCSC Part URL; ComponentLink3URL: https://lcsc.com/product-detail/Multilayer-Ceramic-Capacitors-MLCC---SMD-SMT_TDK-TDK-C4532C0G2J103JT000N_C342642.html
footprint CAP-1812 (1812 (4532M) Capacitor)
pins: 1, 2

## C4532X5R0J107MT000N
designator C?  Capacitance: 100uF  (hidden comment: *)
Capacitor, Ceramic (MLCC), 100uF, ±20%, 6.3V, X5R, ±20%, SMD 1812; Manufacturer: TDK; Manufacturer Part Number: C4532X5R0J107MT000N; Package Size: 1812; JLCPCB Basic Part: No; JLCPCB Part Number: C342602; Supplier 1: LCSC; Category: Capacitors - MLCC; Supplier Part Number 1: C342602; Tolerance: ±20%; Voltage Rating: 6.3V; Temperature Coefficient: X5R; RoHS: Yes; ComponentLink1Description: Datasheet; ComponentLink1URL: https://wmsc.lcsc.com/wmsc/upload/file/pdf/v2/lcsc/2304140030_TDK-C4532X5R0J107MT000N_C342602.pdf; ComponentLink2Description: JLCPCB Part URL; ComponentLink2URL: https://jlcpcb.com/partdetail/C342602; ComponentLink3Description: LCSC Part URL; ComponentLink3URL: https://lcsc.com/product-detail/Multilayer-Ceramic-Capacitors-MLCC---SMD-SMT_TDK-TDK-C4532X5R0J107MT000N_C342602.html
footprint CAP-1812 (1812 (4532M) Capacitor)
pins: 1, 2

## C4532X5R1A107MT000E
designator C?  Capacitance: 100uF  (hidden comment: *)
Capacitor, Ceramic (MLCC), 100uF, ±20%, 10V, X5R, ±20%, SMD 1812; Manufacturer: TDK; Manufacturer Part Number: C4532X5R1A107MT000E; Package Size: 1812; JLCPCB Basic Part: No; JLCPCB Part Number: C342603; Supplier 1: LCSC; Category: Capacitors - MLCC; Supplier Part Number 1: C342603; Tolerance: ±20%; Voltage Rating: 10V; Temperature Coefficient: X5R; RoHS: Yes; ComponentLink1Description: Datasheet; ComponentLink1URL: https://wmsc.lcsc.com/wmsc/upload/file/pdf/v2/lcsc/2304140030_TDK-C4532X5R1A107MT000E_C342603.pdf; ComponentLink2Description: JLCPCB Part URL; ComponentLink2URL: https://jlcpcb.com/partdetail/C342603; ComponentLink3Description: LCSC Part URL; ComponentLink3URL: https://lcsc.com/product-detail/Multilayer-Ceramic-Capacitors-MLCC---SMD-SMT_TDK-TDK-C4532X5R1A107MT000E_C342603.html
footprint CAP-1812 (1812 (4532M) Capacitor)
pins: 1, 2

## C4532X5R1A476MT000N
designator C?  Capacitance: 47uF  (hidden comment: *)
Capacitor, Ceramic (MLCC), 47uF, ±20%, 10V, X5R, ±20%, SMD 1812; Manufacturer: TDK; Manufacturer Part Number: C4532X5R1A476MT000N; Package Size: 1812; JLCPCB Basic Part: No; JLCPCB Part Number: C342615; Supplier 1: LCSC; Category: Capacitors - MLCC; Supplier Part Number 1: C342615; Tolerance: ±20%; Voltage Rating: 10V; Temperature Coefficient: X5R; RoHS: Yes; ComponentLink1Description: Datasheet; ComponentLink1URL: https://wmsc.lcsc.com/wmsc/upload/file/pdf/v2/lcsc/2304140030_TDK-C4532X5R1A476MT000N_C342615.pdf; ComponentLink2Description: JLCPCB Part URL; ComponentLink2URL: https://jlcpcb.com/partdetail/C342615; ComponentLink3Description: LCSC Part URL; ComponentLink3URL: https://lcsc.com/product-detail/Multilayer-Ceramic-Capacitors-MLCC---SMD-SMT_TDK-TDK-C4532X5R1A476MT000N_C342615.html
footprint CAP-1812 (1812 (4532M) Capacitor)
pins: 1, 2

## C4532X5R1C226KT000N
designator C?  Capacitance: 22uF  (hidden comment: *)
Capacitor, Ceramic (MLCC), 22uF, ±10%, 16V, X5R, ±10%, SMD 1812; Manufacturer: TDK; Manufacturer Part Number: C4532X5R1C226KT000N; Package Size: 1812; JLCPCB Basic Part: No; JLCPCB Part Number: C338002; Supplier 1: LCSC; Category: Capacitors - MLCC; Supplier Part Number 1: C338002; Tolerance: ±10%; Voltage Rating: 16V; Temperature Coefficient: X5R; RoHS: Yes; ComponentLink1Description: Datasheet; ComponentLink1URL: https://wmsc.lcsc.com/wmsc/upload/file/pdf/v2/lcsc/2304140030_TDK-C4532X5R1C226KT000N_C338002.pdf; ComponentLink2Description: JLCPCB Part URL; ComponentLink2URL: https://jlcpcb.com/partdetail/C338002; ComponentLink3Description: LCSC Part URL; ComponentLink3URL: https://lcsc.com/product-detail/Multilayer-Ceramic-Capacitors-MLCC---SMD-SMT_TDK-TDK-C4532X5R1C226KT000N_C338002.html
footprint CAP-1812 (1812 (4532M) Capacitor)
pins: 1, 2

## C4532X5R1C226MT000N
designator C?  Capacitance: 22uF  (hidden comment: *)
Capacitor, Ceramic (MLCC), 22uF, ±20%, 16V, X5R, ±20%, SMD 1812; Manufacturer: TDK; Manufacturer Part Number: C4532X5R1C226MT000N; Package Size: 1812; JLCPCB Basic Part: No; JLCPCB Part Number: C342631; Supplier 1: LCSC; Category: Capacitors - MLCC; Supplier Part Number 1: C342631; Tolerance: ±20%; Voltage Rating: 16V; Temperature Coefficient: X5R; RoHS: Yes; ComponentLink1Description: Datasheet; ComponentLink1URL: https://wmsc.lcsc.com/wmsc/upload/file/pdf/v2/lcsc/2304140030_TDK-C4532X5R1C226MT000N_C342631.pdf; ComponentLink2Description: JLCPCB Part URL; ComponentLink2URL: https://jlcpcb.com/partdetail/C342631; ComponentLink3Description: LCSC Part URL; ComponentLink3URL: https://lcsc.com/product-detail/Multilayer-Ceramic-Capacitors-MLCC---SMD-SMT_TDK-TDK-C4532X5R1C226MT000N_C342631.html
footprint CAP-1812 (1812 (4532M) Capacitor)
pins: 1, 2

## C4532X5R1E106M250KA
designator C?  Capacitance: 10uF  (hidden comment: *)
Capacitor, Ceramic (MLCC), 10uF, ±20%, 25V, X5R, ±20%, SMD 1812; Manufacturer: TDK; Manufacturer Part Number: C4532X5R1E106M250KA; Package Size: 1812; JLCPCB Basic Part: No; JLCPCB Part Number: C136141; Supplier 1: LCSC; Category: Capacitors - MLCC; Supplier Part Number 1: C136141; Tolerance: ±20%; Voltage Rating: 25V; Temperature Coefficient: X5R; RoHS: Yes; ComponentLink1Description: Datasheet; ComponentLink1URL: https://wmsc.lcsc.com/wmsc/upload/file/pdf/v2/lcsc/2304140030_TDK-C4532X5R1E106M250KA_C136141.pdf; ComponentLink2Description: JLCPCB Part URL; ComponentLink2URL: https://jlcpcb.com/partdetail/C136141; ComponentLink3Description: LCSC Part URL; ComponentLink3URL: https://lcsc.com/product-detail/Multilayer-Ceramic-Capacitors-MLCC---SMD-SMT_TDK-TDK-C4532X5R1E106M250KA_C136141.html
footprint CAP-1812 (1812 (4532M) Capacitor)
pins: 1, 2

## C4532X6S0J107MT000N
designator C?  Capacitance: 100uF  (hidden comment: *)
Capacitor, Ceramic (MLCC), 100uF, ±20%, 6.3V, X6S, ±20%, SMD 1812; Manufacturer: TDK; Manufacturer Part Number: C4532X6S0J107MT000N; Package Size: 1812; JLCPCB Basic Part: No; JLCPCB Part Number: C342601; Supplier 1: LCSC; Category: Capacitors - MLCC; Supplier Part Number 1: C342601; Tolerance: ±20%; Voltage Rating: 6.3V; Temperature Coefficient: X6S; RoHS: Yes; ComponentLink1Description: Datasheet; ComponentLink1URL: https://wmsc.lcsc.com/wmsc/upload/file/pdf/v2/lcsc/2304140030_TDK-C4532X6S0J107MT000N_C342601.pdf; ComponentLink2Description: JLCPCB Part URL; ComponentLink2URL: https://jlcpcb.com/partdetail/C342601; ComponentLink3Description: LCSC Part URL; ComponentLink3URL: https://lcsc.com/product-detail/Multilayer-Ceramic-Capacitors-MLCC---SMD-SMT_TDK-TDK-C4532X6S0J107MT000N_C342601.html
footprint CAP-1812 (1812 (4532M) Capacitor)
pins: 1, 2

## C4532X7R1C226MT000N
designator C?  Capacitance: 22uF  (hidden comment: *)
Capacitor, Ceramic (MLCC), 22uF, ±20%, 16V, X7R, ±20%, SMD 1812; Manufacturer: TDK; Manufacturer Part Number: C4532X7R1C226MT000N; Package Size: 1812; JLCPCB Basic Part: No; JLCPCB Part Number: C342632; Supplier 1: LCSC; Category: Capacitors - MLCC; Supplier Part Number 1: C342632; Tolerance: ±20%; Voltage Rating: 16V; Temperature Coefficient: X7R; RoHS: Yes; ComponentLink1Description: Datasheet; ComponentLink1URL: https://wmsc.lcsc.com/wmsc/upload/file/pdf/v2/lcsc/2304140030_TDK-C4532X7R1C226MT000N_C342632.pdf; ComponentLink2Description: JLCPCB Part URL; ComponentLink2URL: https://jlcpcb.com/partdetail/C342632; ComponentLink3Description: LCSC Part URL; ComponentLink3URL: https://lcsc.com/product-detail/Multilayer-Ceramic-Capacitors-MLCC---SMD-SMT_TDK-TDK-C4532X7R1C226MT000N_C342632.html
footprint CAP-1812 (1812 (4532M) Capacitor)
pins: 1, 2

## C4532X7R1C336MT000N
designator C?  Capacitance: 33uF  (hidden comment: *)
Capacitor, Ceramic (MLCC), 33uF, ±20%, 16V, X7R, ±20%, SMD 1812; Manufacturer: TDK; Manufacturer Part Number: C4532X7R1C336MT000N; Package Size: 1812; JLCPCB Basic Part: No; JLCPCB Part Number: C342604; Supplier 1: LCSC; Category: Capacitors - MLCC; Supplier Part Number 1: C342604; Tolerance: ±20%; Voltage Rating: 16V; Temperature Coefficient: X7R; RoHS: Yes; ComponentLink1Description: Datasheet; ComponentLink1URL: https://wmsc.lcsc.com/wmsc/upload/file/pdf/v2/lcsc/2304140030_TDK-C4532X7R1C336MT000N_C342604.pdf; ComponentLink2Description: JLCPCB Part URL; ComponentLink2URL: https://jlcpcb.com/partdetail/C342604; ComponentLink3Description: LCSC Part URL; ComponentLink3URL: https://lcsc.com/product-detail/Multilayer-Ceramic-Capacitors-MLCC---SMD-SMT_TDK-TDK-C4532X7R1C336MT000N_C342604.html
footprint CAP-1812 (1812 (4532M) Capacitor)
pins: 1, 2

## C4532X7R1E106KT000N
designator C?  Capacitance: 10uF  (hidden comment: *)
Capacitor, Ceramic (MLCC), 10uF, ±10%, 25V, X7R, ±10%, SMD 1812; Manufacturer: TDK; Manufacturer Part Number: C4532X7R1E106KT000N; Package Size: 1812; JLCPCB Basic Part: No; JLCPCB Part Number: C76689; Supplier 1: LCSC; Category: Capacitors - MLCC; Supplier Part Number 1: C76689; Tolerance: ±10%; Voltage Rating: 25V; Temperature Coefficient: X7R; RoHS: Yes; ComponentLink1Description: Datasheet; ComponentLink1URL: https://wmsc.lcsc.com/wmsc/upload/file/pdf/v2/lcsc/2304140030_TDK-C4532X7R1E106KT000N_C76689.pdf; ComponentLink2Description: JLCPCB Part URL; ComponentLink2URL: https://jlcpcb.com/partdetail/C76689; ComponentLink3Description: LCSC Part URL; ComponentLink3URL: https://lcsc.com/product-detail/Multilayer-Ceramic-Capacitors-MLCC---SMD-SMT_TDK-TDK-C4532X7R1E106KT000N_C76689.html
footprint CAP-1812 (1812 (4532M) Capacitor)
pins: 1, 2